# Altium schematic symbol library 100nF ±10% 16V X7R 0402.Schlib: 1 symbol
Pins are listed as number, name and electrical type; pins without a type are passive.

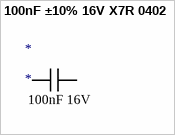
[diagram p0: symbol 100nF ±10% 16V X7R 0402]

## 100nF ±10% 16V X7R 0402
designator *  value 100nF 16V
100nF ±10% 16V X7R 0402 Multilayer Ceramic Capacitors MLCC - SMD/SMT RoHS; LCSC Part #: C1525
footprint CAP 0402_1005 (Chip Capacitor, 2-Leads, Body 1.02x0.51mm, IPC Medium Density)
pins: 1, 2